# EAGLE library part RTL8211E (library realtek)
INTEGRATED 10/100/1000M ETHERNET TRANSCEIVER
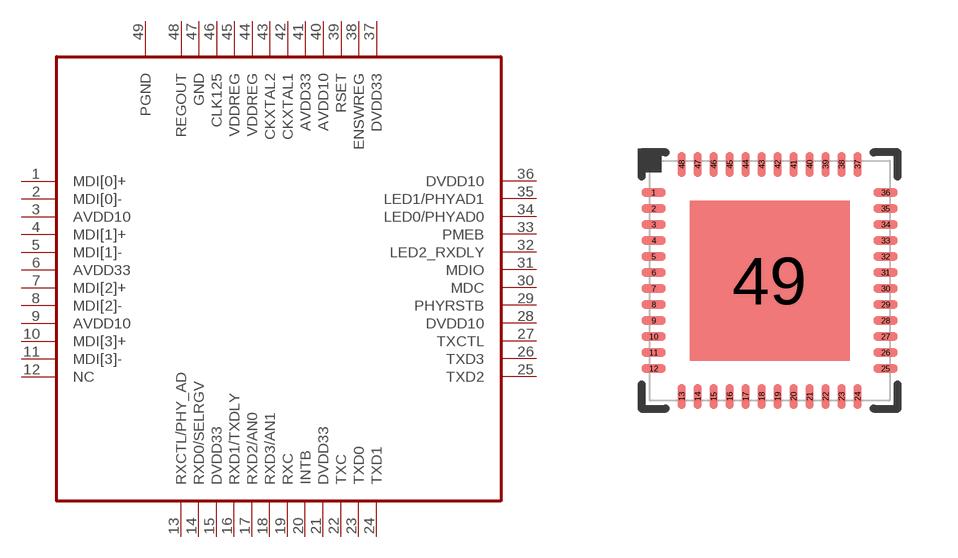
[diagram p0: symbol with the pads of QFN48; footprint QFN48]

Designator prefix U

## RTL8211E  [QFN48]
1  MDI[0]+
2  MDI[0]-
3  AVDD10
4  MDI[1]+
5  MDI[1]-
6  AVDD33
7  MDI[2]+
8  MDI[2]-
9  AVDD10
10  MDI[3]+
11  MDI[3]-
12  NC
13  RXCTL/PHY_AD
14  RXD0/SELRGV
15  DVDD33
16  RXD1/TXDLY
17  RXD2/AN0
18  RXD3/AN1
19  RXC
20  INTB
21  DVDD33
22  TXC
23  TXD0
24  TXD1
25  TXD2
26  TXD3
27  TXCTL
28  DVDD10
29  PHYRSTB
30  MDC
31  MDIO
32  LED2_RXDLY
33  PMEB
34  LED0/PHYAD0
35  LED1/PHYAD1
36  DVDD10
37  DVDD33
38  ENSWREG
39  RSET
40  AVDD10
41  AVDD33
42  CKXTAL1
43  CKXTAL2
44  VDDREG
45  VDDREG
46  CLK125
47  GND
48  REGOUT
49  PGND

## Footprint QFN48 (pad centres in mm)
QFN 48 body 7 X 7 mm
smd 0.6 x 0.2: 1 -2.9,2.2; 2 -2.9,1.8; 3 -2.9,1.4; 4 -2.9,1; 5 -2.9,0.6; 6 -2.9,0.2; 7 -2.9,-0.2; 8 -2.9,-0.6; 9 -2.9,-1; 10 -2.9,-1.4; 11 -2.9,-1.8; 12 -2.9,-2.2; 25 2.9,-2.2; 26 2.9,-1.8; 27 2.9,-1.4; 28 2.9,-1; 29 2.9,-0.6; 30 2.9,-0.2; 31 2.9,0.2; 32 2.9,0.6; 33 2.9,1; 34 2.9,1.4; 35 2.9,1.8; 36 2.9,2.2
smd 0.2 x 0.6: 13 -2.2,-2.9; 14 -1.8,-2.9; 15 -1.4,-2.9; 16 -1,-2.9; 17 -0.6,-2.9; 18 -0.2,-2.9; 19 0.2,-2.9; 20 0.6,-2.9; 21 1,-2.9; 22 1.4,-2.9; 23 1.8,-2.9; 24 2.2,-2.9; 37 2.2,2.9; 38 1.8,2.9; 39 1.4,2.9; 40 1,2.9; 41 0.6,2.9; 42 0.2,2.9; 43 -0.2,2.9; 44 -0.6,2.9; 45 -1,2.9; 46 -1.4,2.9; 47 -1.8,2.9; 48 -2.2,2.9
smd 4 x 4: 49 0,0